# Altium footprint library 292303-4.PcbLib: 1 footprints
Each footprint in its own frame and in the unit in brackets; x right, y up, seen from the top. Pads: shape width x height; smd on the part's side, far side on the other; paste and mask are expansions set on the pad; w line width, h text height; cw(c..) or ccw(c..) is an arc to the next point about the centre after c.
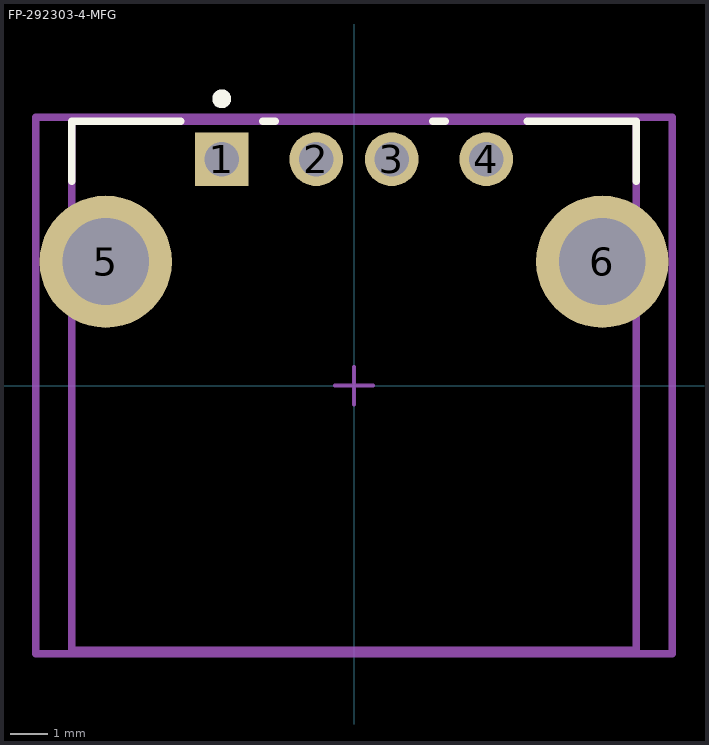
[diagram p0: the footprint, top view; thin cyan lines are the x and y axes]

## FP-292303-4-MFG [mm]
pads (6):
  rect 1.42x1.42 hole 0.92 paste-1000 mask+0: 1(-3.5,5.99)
  round 1.42 hole 0.92 paste-1000 mask+0: 2(-1,5.99) 3(1,5.99) 4(3.5,5.99)
  round 3.5 hole 2.3 paste-1000 mask+0: 5(-6.57,3.28) 6(6.57,3.28)
Top Overlay:
  circle w0.25: c-3.5,7.59 r0.125
  lines w0.2: -7.47,5.405 -7.47,7 -4.585,7 ; -2.415,7 -2.085,7 ; 2.085,7 2.415,7 ; 4.585,7 7.47,7 7.47,5.405
Top Assembly:
  lines w0.2: -8.42,-7.1 -8.42,7.1 8.42,7.1 8.42,-7.1 -8.42,-7.1
  text ".Designator" at 0,0 h1
Top 3D Body:
  lines w0.2: -7.47,-7 -7.47,7 7.47,7 7.47,-7 -7.47,-7
Top Courtyard:
  lines w0.2: -8.42,-7.1 -8.42,7.1 8.42,7.1 8.42,-7.1 -8.42,-7.1
Top Component Center:
  lines w0.1: -0.5,0 0.5,0 ; 0,-0.5 0,0.5
3D body "Conn_TE_Connectivity_292303-4_eec.STEP": height 0.25, standoff 0, extent -8.42,-7.1 8.42,7.1